# EAGLE library part SFW4R-*STE1 (library CON-FFC)
FPC/FFC 4POS 1mm Connector Datasheet/Drawing <http://portal.fciconnect.com/Comergent//fci/drawing/sfw12lf.pdf>
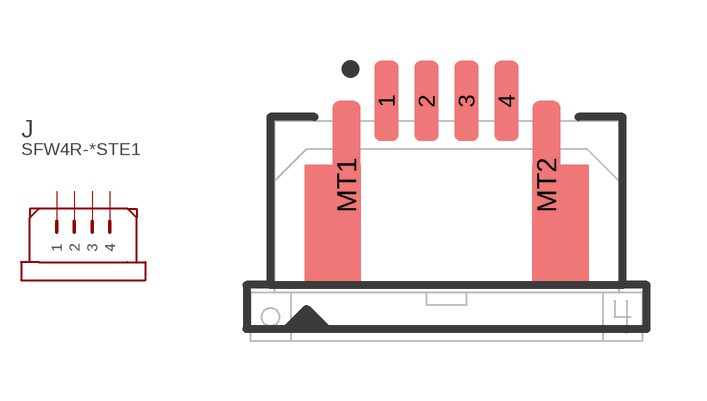
[diagram p1: symbol with the pads of SFW4R-*STE1; footprint SFW4R-*STE1]

Designator prefix J

## SFW4R-1STE1LF  [SFW4R-*STE1]
1  1  pas
2  2  pas
3  3  pas
4  4  pas
MT1  MT1  pas
MT2  MT2  pas

## Footprint SFW4R-*STE1 (pad centres in mm)
FPC/FFC 1mm Connector Datasheet/Drawing <http://portal.fciconnect.com/Comergent//fci/drawing/sfw12lf.pdf>
smd 0.6 x 2: 1 -1.5,6; 2 -0.5,6; 3 0.5,6; 4 1.5,6
smd 0.7 x 4.2: MT1 -2.5,3.9; MT2 2.5,3.9